# Altium schematic symbol library Master_v1i3.SchLib: 24 symbols
Pins are listed as number, name and electrical type; pins without a type are passive.

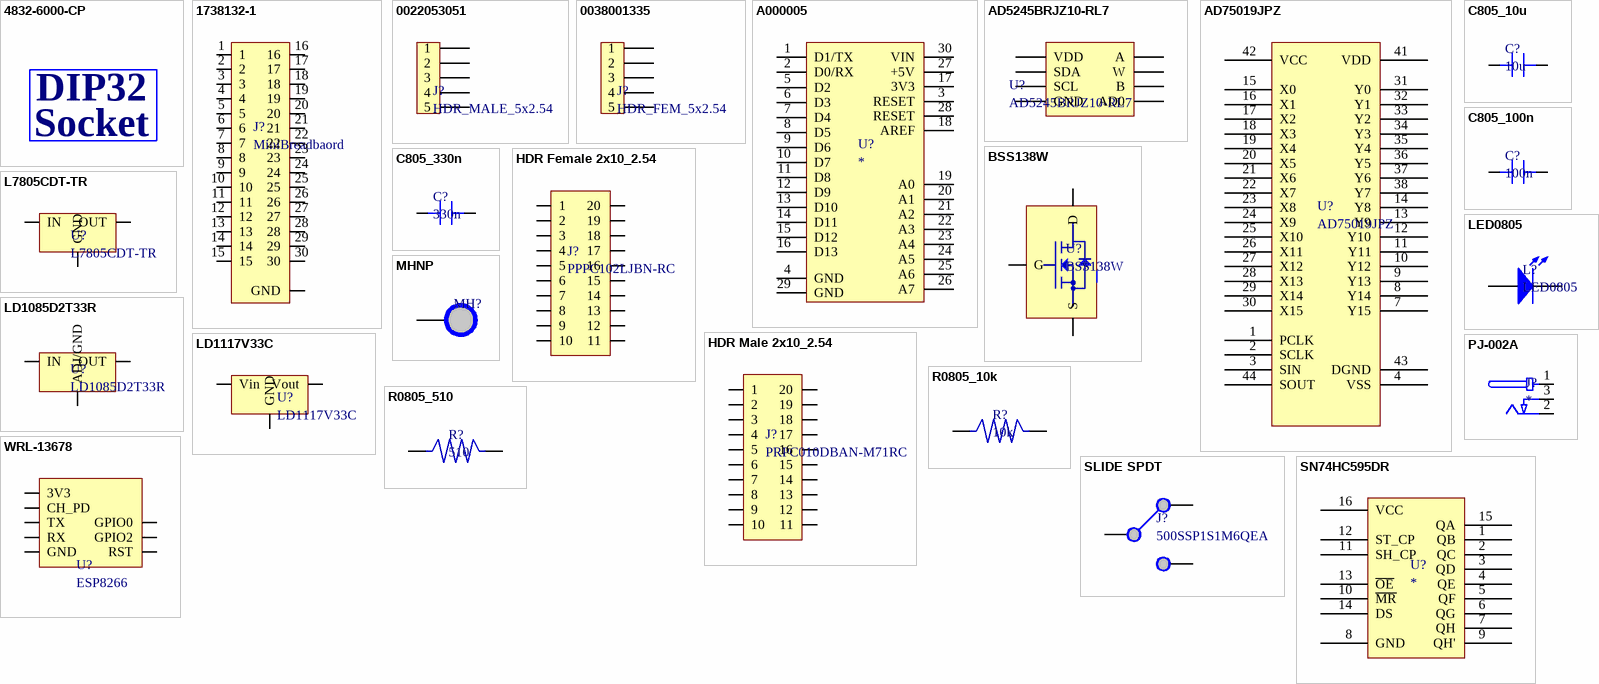
[diagram p0: symbols 4832-6000-CP to WRL-13678]

## 4832-6000-CP
designator Socket for U?, comment DIOP 32 socket  (value not drawn)  (mechanical)
SOCKET IC OPEN FRAME 32POS .6"; Manufacturer: 3M; Manufacturer Part Number: 4832-6000-CP; Current Rating: 1A; Voltage Rating (AC): 100V; Insulation Resistance: 5GR; Number of Positions: 32; Connector Type: DIP,Socket; Gender: Female; Pitch: 2.54mm; Row Spacing: 15.24mm; Supplier 1: Digi-Key; Stock 1: 4342; Mount: Through Hole; Contact Material: Bronze; Contact Plating: Nickel,Tin; Housing Material: Polyester; Insulation Material: Polyester; Min Operating Temperature: -25°C; Max Operating Temperature: 85°C; Package Quantity: 2880; Packaging: Rail/Tube; Number of Rows: 2; Termination: Solder; Number of Contacts: 32; Orientation: Straight; Length: 40.51mm; Width: 17.78mm; Depth: 17.78mm; Lead Free: Lead Free; Flammability Rating: UL94 V-0; ComponentLink1URL: https://datasheet.ciiva.com/768/ts1099-768356.pdf; ComponentLink1Description: https://datasheet.ciiva.com/768/ts1099-768356.pdf; ComponentLink2URL: https://datasheet.ciiva.com/14603/70237699-14603099.pdf; ComponentLink2Description: https://datasheet.ciiva.com/14603/70237699-14603099.pdf; Supplier Part Number 1: 3M5470-ND
text: DIP32; Socket

## 1738132-1
designator J?, comment MiniBreadbaord
Mini Breadboard; Manufacturer: TE Connectivity AMP; Manufacturer Part Number: 1738132-1; Gender: Male; Supplier 1: Digi-Key; Stock 1: 0; Colour: Natural; ComponentLink1URL: http://www.te.com/commerce/DocumentDelivery/DDEController?Action=srchrtrv&DocNm=1738132&DocType=Customer+Drawing&DocLang=English; ComponentLink1Description: http://www.te.com/commerce/DocumentDelivery/DDEController?Action=srchrtrv&DocNm=1738132&DocType=Customer+Drawing&DocLang=English; Supplier Part Number 1: 1738132-1-ND
footprint MINI_BREADBOARD _HOLE
pins: 1, 2, 3, 4, 5, 6, 7, 8, 9, 10, 11, 12, 13, 14, 15, 16, 17, 18, 19, 20, 21, 22, 23, 24, 25, 26, 27, 28, 29, 30, 31 GND

## 0022053051
designator J?, comment HDR_MALE_5x2.54
5 Positions Header, Unshrouded Connector 0.100" (2.54mm) Through Hole, Right Angle Tin; Manufacturer: Molex; Manufacturer Part Number: 0022053051; Number of Positions: 5; Number of Positions Loaded: All; Supplier 1: Digi-Key; Stock 1: 6113; Pricing 1: 1=0.58, 10=0.546, 100=0.4186, 500=0.364, 1000=0.3003, 5000=0.2639, 10000=0.2457 (USD); Category: Connectors, Interconnects; Family: Rectangular Connectors - Headers, Male Pins; Series: KK® 7478; Packaging: Bulk; Contact Type: Male Pin; Connector Type: Header, Unshrouded; Pitch: 0.100" (2.54mm); Number of Rows: 1; Row Spacing: -; Contact Mating Length: 0.264" (6.70mm); Mounting Type: Through Hole, Right Angle; Termination: Solder; Fastening Type: Friction Lock; Features: -; Contact Finish: Tin; Contact Finish Thickness: 200µin (5.08µm); Color: White; ComponentLink1URL: https://datasheet.ciiva.com/3117/0022053051-pcb-headers-3117143.pdf; ComponentLink1Description: https://datasheet.ciiva.com/3117/0022053051-pcb-headers-3117143.pdf; ComponentLink2URL: https://datasheet.ciiva.com/14896/203490022053051-pcb-headers-14896747.pdf; ComponentLink2Description: https://datasheet.ciiva.com/14896/203490022053051-pcb-headers-14896747.pdf; ComponentLink3URL: https://datasheet.ciiva.com/712/022053051-sd-712029.pdf; ComponentLink3Description: https://datasheet.ciiva.com/712/022053051-sd-712029.pdf; Supplier Part Number 1: WM4303-ND
footprint HDR_MALE_5x2.54
pins: 1, 2, 3, 4, 5

## 0038001335
designator J?, comment HDR_FEM_5x2.54
5 Position Receptacle Connector 0.100" (2.54mm) Through Hole, Right Angle Tin; Manufacturer: Molex; Manufacturer Part Number: 0038001335; Number of Contacts: 5; Gender: RCP; Supplier 1: Digi-Key; Stock 1: 2007; Pricing 1: 1=0.93, 10=0.821, 25=0.7732, 50=0.7408, 100=0.7086, 250=0.6442, 500=0.5798, 1000=0.5154, 2500=0.467 (USD); Packaging: Trays; Type: Socket Strip; Pitch: 2.54 mm; Number of Rows: 1; Contact Plating: Tin; Termination Method: Solder; ComponentLink1URL: https://datasheet.ciiva.com/411/022173022-sd-411238.pdf; ComponentLink1Description: https://datasheet.ciiva.com/411/022173022-sd-411238.pdf; ComponentLink2URL: https://datasheet.ciiva.com/10084/0038001335-pcb-receptacles-10084551.pdf; ComponentLink2Description: https://datasheet.ciiva.com/10084/0038001335-pcb-receptacles-10084551.pdf; ComponentLink3URL: https://datasheet.ciiva.com/26937/getdatasheetpartid-467333-26937535.pdf; ComponentLink3Description: https://datasheet.ciiva.com/26937/getdatasheetpartid-467333-26937535.pdf; Supplier Part Number 1: WM4450-ND
footprint HDR_FEMALE_5x2.54
pins: 1, 2, 3, 4, 5

## A000005
designator U?
ARDUINO   A000005   ATMEGA328, ARDUINO NANO, EVAL BOARD; Evaluation Kit: Yes; Interface: I2C,SPI,USB; Data Bus Width: 8b; Number of Bits: 8; Core Architecture: AVR; Operating Supply Voltage: 20V; Supplier 1: Digi-Key; Manufacturer: Arduino; Manufacturer Part Number: A000005; Stock 1: 0; Weight: 0.02lb; Package Quantity: 1; Packaging: Bulk; Length: 7inch; Height: 0.25inch; Width: 5inch; REACH SVHC: No SVHC; ComponentLink1URL: https://datasheet.ciiva.com/19455/2121148-19455443.pdf; ComponentLink1Description: https://datasheet.ciiva.com/19455/2121148-19455443.pdf; ComponentLink2URL: https://datasheet.ciiva.com/1336/1682238-1336473.pdf; ComponentLink2Description: https://datasheet.ciiva.com/1336/1682238-1336473.pdf; ComponentLink3URL: https://datasheet.ciiva.com/1414/810078-1414124.pdf; ComponentLink3Description: https://datasheet.ciiva.com/1414/810078-1414124.pdf; ComponentLink4URL: https://datasheet.ciiva.com/2398/arduinonanomanual23-2398236.pdf; ComponentLink4Description: https://datasheet.ciiva.com/2398/arduinonanomanual23-2398236.pdf; ComponentLink5URL: https://datasheet.ciiva.com/4926/arduino-arduinoboardnano-188748-4926316.pdf; ComponentLink5Description: https://datasheet.ciiva.com/4926/arduino-arduinoboardnano-188748-4926316.pdf; ComponentLink6URL: https://datasheet.ciiva.com/20168/73-4448-20168542.pdf; ComponentLink6Description: https://datasheet.ciiva.com/20168/73-4448-20168542.pdf; ComponentLink7URL: https://datasheet.ciiva.com/12069/arduino-arduinoboardnano-12069727.pdf; ComponentLink7Description: https://datasheet.ciiva.com/12069/arduino-arduinoboardnano-12069727.pdf; Supplier Part Number 1: 1050-1001-ND
footprint ARDUINO_NANO
pins: 1 D1/TX, 2 D0/RX, 3 RESET, 4 GND, 5 D2, 6 D3, 7 D4, 8 D5, 9 D6, 10 D7, 11 D8, 12 D9, 13 D10, 14 D11, 15 D12, 16 D13, 17 3V3, 18 AREF, 19 A0, 20 A1, 21 A2, 22 A3, 23 A4, 24 A5, 25 A6, 26 A7, 27 +5V, 28 RESET, 29 GND, 30 VIN

## AD5245BRJZ10-RL7
designator U?
IC, 8-BIT DIGITAL POT; Manufacturer: Analog Devices; Configuration: Potentiometer; Number of Circuits: 1; Number of Taps: 256; Resistance (Ohms): 10k; Interface: I²C; Memory Type: Volatile; Voltage - Supply: 2.7 V ~ 5.5 V; Tolerance: ±30%; Temperature Coefficient (Typ): 45 ppm/°C; Resistance - Wiper (Ohms) (Typ): 50; Supplier 1: Digi-Key; Manufacturer Part Number: AD5245BRJZ10-RL7; Stock 1: 2781; Pricing 1: 1=2.03, 10=1.819, 100=1.4625, 500=1.2015, 1000=0.9956 (USD); Category: Integrated Circuits (ICs); Family: Data Acquisition - Digital Potentiometers; Series: -; Packaging: Cut Tape (CT); Taper: Linear; Features: Selectable Address; Operating Temperature: -40°C ~ 125°C; Package / Case: SOT-23-8; Supplier Device Package: SOT-23-8; ComponentLink1URL: https://datasheet.ciiva.com/1337/ad5245-1337666.pdf; ComponentLink1Description: https://datasheet.ciiva.com/1337/ad5245-1337666.pdf; ComponentLink2URL: https://datasheet.ciiva.com/18632/ad5245-18632661.pdf; ComponentLink2Description: https://datasheet.ciiva.com/18632/ad5245-18632661.pdf; ComponentLink3URL: https://datasheet.ciiva.com/3046/ad5245-3046375.pdf; ComponentLink3Description: https://datasheet.ciiva.com/3046/ad5245-3046375.pdf; ComponentLink4URL: https://datasheet.ciiva.com/1145/85380-1145610.pdf; ComponentLink4Description: https://datasheet.ciiva.com/1145/85380-1145610.pdf; ComponentLink5URL: https://datasheet.ciiva.com/16593/ad5245-16593627.pdf; ComponentLink5Description: https://datasheet.ciiva.com/16593/ad5245-16593627.pdf; ComponentLink6URL: https://datasheet.ciiva.com/26801/ad5245brjz10-rl7-26801979.pdf; ComponentLink6Description: https://datasheet.ciiva.com/26801/ad5245brjz10-rl7-26801979.pdf; Supplier Part Number 1: AD5245BRJZ10-RL7CT-ND
footprint SOT-23-8
pins: 1 W, 2 VDD, 3 GND, 4 SCL, 5 SDA, 6 AD0, 7 B, 8 A

## AD75019JPZ
designator U?
SWITCH CROSSPOINT 16X16, SMD, 75019; Manufacturer: Analog Devices; Crosspoint Switch Type: Analogue; Control Interface: Serial; Supply Voltage Min: 4.5V; Supply Voltage Max: 5.5V; Digital IC Case: LCC; No. of Pins: 44Pins; SVHC: No SVHC (17-Dec-2015); Supplier 1: Digi-Key; Manufacturer Part Number: AD75019JPZ; Stock 1: 792; Input / Output Configuration: -; Operating Temperature Min: -25°C; Operating Temperature Max: 85°C; Packaging: Each; Product Range: -; MSL: MSL 3 - 168 hours; ComponentLink1URL: https://datasheet.ciiva.com/3036/ad75019-3036466.pdf; ComponentLink1Description: https://datasheet.ciiva.com/3036/ad75019-3036466.pdf; ComponentLink2URL: https://datasheet.ciiva.com/1170/66420-1170438.pdf; ComponentLink2Description: https://datasheet.ciiva.com/1170/66420-1170438.pdf; ComponentLink3URL: https://datasheet.ciiva.com/26824/ad75019jpz-26824058.pdf; ComponentLink3Description: https://datasheet.ciiva.com/26824/ad75019jpz-26824058.pdf; Supplier Part Number 1: AD75019JPZ-ND
footprint PLCC44_DIP
pins: 1 PCLK, 2 SCLK, 3 SIN, 4 VSS, 5 NC hidden, 6 NC hidden, 7 Y15, 8 Y14, 9 Y13, 10 Y12, 11 Y11, 12 Y10, 13 Y9, 14 Y8, 15 X0, 16 X1, 17 X2, 18 X3, 19 X4, 20 X5, 21 X6, 22 X7, 23 X8, 24 X9, 25 X10, 26 X11, 27 X12, 28 X13, 29 X14, 30 X15, 31 Y0, 32 Y1, 33 Y2, 34 Y3, 35 Y4, 36 Y5, 37 Y6, 38 Y7, 39 NC hidden, 40 NC hidden, 41 VDD, 42 VCC, 43 DGND, 44 SOUT

## BSS138W
designator U?
MOSFET 50V N-CH Logic Level; Manufacturer: Fairchild Semiconductor; Channel Type: N-Channel; Drain-Source On Resistance-Max: 3.5 O; Qg Gate Charge: 1.1 nC; Rated Power Dissipation: 340 mW; Supplier 1: Digi-Key; Manufacturer Part Number: BSS138W; Stock 1: 55420; Drain-to-Source Voltage [Vdss]: 50 V; ComponentLink1URL: https://datasheet.ciiva.com/17170/bss138w-17170739.pdf; ComponentLink1Description: https://datasheet.ciiva.com/17170/bss138w-17170739.pdf; ComponentLink2URL: https://datasheet.ciiva.com/8115/bss138w-8115367.pdf; ComponentLink2Description: https://datasheet.ciiva.com/8115/bss138w-8115367.pdf; ComponentLink3URL: https://datasheet.ciiva.com/15043/bss138w-15043927.pdf; ComponentLink3Description: https://datasheet.ciiva.com/15043/bss138w-15043927.pdf; ComponentLink4URL: https://datasheet.ciiva.com/15043/bss138w-15043928.pdf; ComponentLink4Description: https://datasheet.ciiva.com/15043/bss138w-15043928.pdf; ComponentLink5URL: https://datasheet.ciiva.com/15043/bss138w-15043929.pdf; ComponentLink5Description: https://datasheet.ciiva.com/15043/bss138w-15043929.pdf; ComponentLink6URL: https://datasheet.ciiva.com/8115/bss138w-8115370.pdf; ComponentLink6Description: https://datasheet.ciiva.com/8115/bss138w-8115370.pdf; ComponentLink7URL: https://datasheet.ciiva.com/26146/bss138w-26146843.pdf; ComponentLink7Description: https://datasheet.ciiva.com/26146/bss138w-26146843.pdf; ComponentLink8URL: https://datasheet.ciiva.com/13042/bss138w-91619-13042909.pdf; ComponentLink8Description: https://datasheet.ciiva.com/13042/bss138w-91619-13042909.pdf; Supplier Part Number 1: BSS138WCT-ND
footprint SOT-323
pins: 1 G, 2 S, 3 D

## C805_10u
designator C?, comment 10u
footprint C0805
pins: 1, 2

## C805_100n
designator C?, comment 100n
footprint C0805
pins: 1, 2

## C805_330n
designator C?, comment 330n
footprint C0805
pins: 1, 2

## HDR Female 2x10_2.54
designator J?, comment PPPC102LJBN-RC
CONN FMALE 20POS DL .1" R/A GOLD; Manufacturer: Sullins; Number of Positions: 20; Connector Type: Socket,Header; Pitch: 0.1inch; Supplier 1: Digi-Key; Manufacturer Part Number: PPPC102LJBN-RC; Stock 1: 12126; Mount: Through Hole; Colour: Black; Contact Plating: Gold; Contact Material: Bronze; Housing Colour: Black; Housing Material: Plastic; Package Quantity: 1000; Number of Rows: 2; Packaging: Bulk; Termination: Solder; Length: 25.9mm; Height: 5mm; Row Spacing: 0.1inch; Width: 8.5mm; Lead Free: Lead Free; ComponentLink1URL: http://www.sullinscorp.com/images/10494.pdf; ComponentLink1Description: http://www.sullinscorp.com/images/10494.pdf; ComponentLink2URL: http://sullinscorp.com/drawings/101_P(N)PxCxx2LJBN-RC,_10494-H.pdf; ComponentLink2Description: http://sullinscorp.com/drawings/101_P(N)PxCxx2LJBN-RC,_10494-H.pdf; Supplier Part Number 1: S5563-ND
footprint HDR_FEMALE_10x2x2.54 (PPPC102LJBN-RC)
pins: 1, 2, 3, 4, 5, 6, 7, 8, 9, 10, 11, 12, 13, 14, 15, 16, 17, 18, 19, 20

## HDR Male 2x10_2.54
designator J?, comment PRPC010DBAN-M71RC
20 Positions Header, Unshrouded, Breakaway Connector 0.100" (2.54mm) Through Hole, Right Angle Gold; Manufacturer: Sullins; Number of Positions: 20; Connector Type: Male Pin; Pitch: 0.1inch; Supplier 1: Digi-Key; Manufacturer Part Number: PRPC010DBAN-M71RC; Stock 1: 459; Mount: Through Hole; Colour: Black; Contact Plating: Gold; Package Quantity: 1; Number of Rows: 2; Packaging: Bulk; Termination: Solder; Row Spacing: 0.1inch; Contact Mating Length: 0.23inch; ComponentLink1URL: https://datasheet.ciiva.com/741/xrxczzzdxxn-m71rc-11639-b-741675.pdf; ComponentLink1Description: https://datasheet.ciiva.com/741/xrxczzzdxxn-m71rc-11639-b-741675.pdf; Supplier Part Number 1: S2111EC-10-ND; Pricing 1: 1=1.08, 10=0.97, 100=0.7989, 500=0.6315, 1000=0.5421, 5000=0.49455, 10000=0.47553 (USD)
footprint HDR_MALE_10x2x2.54 (PRPC010DBAN-M71RC)
pins: 1, 2, 3, 4, 5, 6, 7, 8, 9, 10, 11, 12, 13, 14, 15, 16, 17, 18, 19, 20

## L7805CDT-TR
designator U?
IC REG LDO 5V 1.5A DPAK; Manufacturer: STMicroelectronics; Dropout Voltage: 2V; Number of Outputs: 1; Max Input Voltage: 35V; Min Input Voltage: 7V; Polarity: Positive; Quiescent Current: 8mA; Power Supply Rejection Ratio (PSRR): 62dB; Supplier 1: Digi-Key; Manufacturer Part Number: L7805CDT-TR; Stock 1: 7500; Mount: Surface Mount; Case/Package: TO-252; Number of Pins: 3; Contact Plating: Tin,Matte; Min Operating Temperature: 0°C; Max Operating Temperature: 125°C; Package Quantity: 1; Packaging: Tape and Reel; Max Output Current: 1.5A; Output Voltage: 5V; Output Current: 1.5A; Number of Regulators: 1; Min Output Voltage: 5V; Length: 6.6mm; Height: 2.4mm; Width: 6.2mm; Radiation Hardening: No; Lead Free: Lead Free; ComponentLink1URL: https://datasheet.ciiva.com/2042/cd00000444-2042784.pdf; ComponentLink1Description: https://datasheet.ciiva.com/2042/cd00000444-2042784.pdf; ComponentLink2URL: https://datasheet.ciiva.com/2042/cd00000444-2042785.pdf; ComponentLink2Description: https://datasheet.ciiva.com/2042/cd00000444-2042785.pdf; ComponentLink3URL: https://datasheet.ciiva.com/16357/cd00000444-16357893.pdf; ComponentLink3Description: https://datasheet.ciiva.com/16357/cd00000444-16357893.pdf; ComponentLink4URL: https://datasheet.ciiva.com/4882/cd00000444-4882231.pdf; ComponentLink4Description: https://datasheet.ciiva.com/4882/cd00000444-4882231.pdf; ComponentLink5URL: https://datasheet.ciiva.com/17360/cd00000444-17360220.pdf; ComponentLink5Description: https://datasheet.ciiva.com/17360/cd00000444-17360220.pdf; ComponentLink6URL: https://datasheet.ciiva.com/2042/cd00000444-2042783.pdf; ComponentLink6Description: https://datasheet.ciiva.com/2042/cd00000444-2042783.pdf; ComponentLink7URL: https://datasheet.ciiva.com/26904/l7805cdt-tr-26904768.pdf; ComponentLink7Description: https://datasheet.ciiva.com/26904/l7805cdt-tr-26904768.pdf; Supplier Part Number 1: 497-7255-2-ND
footprint DPAK (D-PAK, 3-Pads, Body 6.10x6.56mm (max), IPC Medium Density)
pins: 1 IN, 3 OUT, 4 GND

## LD1085D2T33R
designator U?
Fixed LDO Voltage Regulator, 6.3V to 30V, 1.3V Dropout, 3.3Vout, 3Aout, TO-263-3; Manufacturer: STMicroelectronics; Number of Outputs: 1; Max Output Current: 3A; Output Voltage: 3.3V; Min Supply Voltage: 4.9V; Input Bias Current: 5mA; Polarity: Positive; Quiescent Current: 10mA; Max Output Voltage: 3.333V; Accuracy: 1%; Supplier 1: Digi-Key; Manufacturer Part Number: LD1085D2T33R; Stock 1: 5416; Mount: Surface Mount; Case/Package: TO-263; Number of Pins: 3; Weight: 0.01lb; Contact Plating: Tin,Matte; Min Operating Temperature: -40°C; Max Operating Temperature: 125°C; Packaging: Tape and Reel; Max Input Voltage: 30V; Dropout Voltage: 1.3V; Output Current: 3A; Max Supply Voltage: 30V; Package Quantity: 1; Min Input Voltage: 6.3V; Nominal Output Voltage: 3.3V; Number of Regulators: 1; Min Output Voltage: 3.3V; Termination: SMD/SMT; Output Voltage Accuracy: 1%; Length: 10.4mm; Height: 4.6mm; Width: 9.35mm; Radiation Hardening: No; REACH SVHC: No SVHC; Lead Free: Lead Free; ComponentLink1URL: https://datasheet.ciiva.com/16375/cd00001883-16375381.pdf; ComponentLink1Description: https://datasheet.ciiva.com/16375/cd00001883-16375381.pdf; ComponentLink2URL: https://datasheet.ciiva.com/1511/1761309-1511542.pdf; ComponentLink2Description: https://datasheet.ciiva.com/1511/1761309-1511542.pdf; ComponentLink3URL: https://datasheet.ciiva.com/22694/1761309-22694841.pdf; ComponentLink3Description: https://datasheet.ciiva.com/22694/1761309-22694841.pdf; ComponentLink4URL: https://datasheet.ciiva.com/2044/cd00001883-2044187.pdf; ComponentLink4Description: https://datasheet.ciiva.com/2044/cd00001883-2044187.pdf; ComponentLink5URL: https://datasheet.ciiva.com/15111/getdatasheetpartid-65476-15111291.pdf; ComponentLink5Description: https://datasheet.ciiva.com/15111/getdatasheetpartid-65476-15111291.pdf; ComponentLink6URL: https://datasheet.ciiva.com/2044/cd00001883-2044188.pdf; ComponentLink6Description: https://datasheet.ciiva.com/2044/cd00001883-2044188.pdf; ComponentLink7URL: https://datasheet.ciiva.com/2044/cd00001883-2044189.pdf; ComponentLink7Description: https://datasheet.ciiva.com/2044/cd00001883-2044189.pdf; ComponentLink8URL: https://datasheet.ciiva.com/41439/001184676-da-01-en-ic-reg-ldo-3-3-ld1085d2t33r-to-263-3-stm-41439834.pdf; ComponentLink8Description: https://datasheet.ciiva.com/41439/001184676-da-01-en-ic-reg-ldo-3-3-ld1085d2t33r-to-263-3-stm-41439834.pdf; Supplier Part Number 1: 497-1222-6-ND; Pricing 1: 1=1.46, 10=1.305, 100=1.0176, 500=0.84066 (USD)
footprint D2PAK
pins: 1 ADJ/GND, 3 IN, 4 OUT

## LD1117V33C
designator U?
STMICROELECTRONICS         LD1117V33C            Fixed LDO Voltage Regulator, 15V in, 1.1V Dropout, 3.3V/800mA out, TO-220-3; Number of Outputs: 1; Output Voltage: 3.3V; Max Output Current: 1.3A; Max Power Dissipation: 12W; Polarity: Positive; Quiescent Current: 10mA; Accuracy: 1%; Output Current: 800mA; Input Bias Current: 5mA; Supplier 1: Digi-Key; Manufacturer: STMicroelectronics; Manufacturer Part Number: LD1117V33C; Stock 1: 2184; Mount: Through Hole; Case/Package: TO; Number of Pins: 3; Weight: 0.02lb; Min Operating Temperature: -40°C; Max Operating Temperature: 125°C; Max Input Voltage: 15V; Packaging: Rail/Tube; Dropout Voltage: 1.1V; Number of Regulators: 1; Package Quantity: 50; Nominal Output Voltage: 3.3V; Power Dissipation: 12W; Min Output Voltage: 3.3V; Output Voltage Accuracy: 1%; Length: 10.4mm; Height: 9.15mm; Width: 4.6mm; Radiation Hardening: No; REACH SVHC: No SVHC; Lead Free: Lead Free; ComponentLink1URL: https://datasheet.ciiva.com/1511/1776449-1511580.pdf; ComponentLink1Description: https://datasheet.ciiva.com/1511/1776449-1511580.pdf; ComponentLink2URL: https://datasheet.ciiva.com/16226/cd00000544-16226333.pdf; ComponentLink2Description: https://datasheet.ciiva.com/16226/cd00000544-16226333.pdf; ComponentLink3URL: https://datasheet.ciiva.com/2044/cd00000544-2044110.pdf; ComponentLink3Description: https://datasheet.ciiva.com/2044/cd00000544-2044110.pdf; Supplier Part Number 1: 497-1492-5-ND
footprint LD1117
pins: 1 GND, 2 Vout, 3 Vin

## LED0805
designator L?  (no BOM)
LED0805 any color
footprint LED0805
pins: 1 C, 2 A

## MHNP
designator MH?, comment MH 3.2mm NP  (value not drawn)  (no BOM)
Mounting hole 3.2mm non plated
footprint MH3.2mm (MHNP 3.2mm)
pins: 1

## PJ-002A
designator J?
PJ-002 Series 2 x 6.5 mm 16 V Right Angle Through Hole Power Jack; Manufacturer: CUI; Manufacturer Part Number: PJ-002A; Gender: Male; Shielding: Unshielded; Current Rating: 2.5A; Voltage Rating: 24V; Insulation Resistance: 50MR; Number of Conductors: 2; Supplier 1: Digi-Key; Stock 1: 133077; Mount: Through Hole; Contact Material: Copper,Copper Alloy; Contact Plating: Nickel,Tin; Housing Colour: Black; Housing Material: Thermoplastic; Colour: Black; Min Operating Temperature: -25°C; Max Operating Temperature: 85°C; Termination: Through Hole; Connector Type: Jack; Packaging: Bulk; Package Quantity: 500; Contact Gender: Male; Orientation: Horizontal; Diameter: 2.1mm; Lead Free: Lead Free; Flammability Rating: UL94 V-0; ComponentLink1URL: http://www.cui.com/product/resource/digikeypdf/pj-002a.pdf; ComponentLink1Description: http://www.cui.com/product/resource/digikeypdf/pj-002a.pdf; ComponentLink2URL: http://www.cui.com/Product/Resource/FuturePDF/PJ-002A.pdf; ComponentLink2Description: http://www.cui.com/Product/Resource/FuturePDF/PJ-002A.pdf; ComponentLink3URL: http://www.mouser.com/ds/2/670/pj-002a-515880.pdf; ComponentLink3Description: http://www.mouser.com/ds/2/670/pj-002a-515880.pdf; Supplier Part Number 1: CP-002A-ND
footprint PJ-002A (CONN PWR JACK 2X5.5MM SOLDER)
pins: 1, 2 3, 3 2

## R0805_10k
designator R?, comment 10k
footprint R0805
pins: 1, 2

## R0805_510
designator R?, comment 510
footprint R0805
pins: 1, 2

## SLIDE SPDT
designator J?, comment 500SSP1S1M6QEA
SWITCH SLIDE SPDT 5A 120V; Manufacturer: E-Switch; Mechanical Life: 30000Cycles; Actuator Material: Nylon,Polyamide; Max Voltage Rating (AC): 250V; Voltage Rating (DC): 28V; Contact Resistance: 10mR; Switch Travel: 2.16mm; Switch Function: On-On; Actuator Length: 4.72mm; Supplier 1: Digi-Key; Manufacturer Part Number: 500SSP1S1M6QEA; Stock 1: 6111; Mount: Through Hole,Brackets; Contact Plating: Silver; Contact Material: Copper,Silver,Copper Alloy; Housing Material: Stainless Steel; Min Operating Temperature: -30°C; Max Operating Temperature: 85°C; Contact Current Rating: 5A; Voltage Rating (AC): 120V; Throw Configuration: SPDT; Package Quantity: 1; Packaging: Bulk; Current Rating: 5A; Max Voltage Rating (DC): 28V; Termination: PC Pin; Electrical Life: 30000Cycles; Orientation: Right Angle; REACH SVHC: Unknown; Lead Free: Lead Free; Flammability Rating: UL94 V-0; ComponentLink1URL: https://datasheet.ciiva.com/16337/500-16337624.pdf; ComponentLink1Description: https://datasheet.ciiva.com/16337/500-16337624.pdf; ComponentLink2URL: https://datasheet.ciiva.com/16174/35500-16174234.pdf; ComponentLink2Description: https://datasheet.ciiva.com/16174/35500-16174234.pdf; ComponentLink3URL: https://datasheet.ciiva.com/2889/t511006d-2889419.pdf; ComponentLink3Description: https://datasheet.ciiva.com/2889/t511006d-2889419.pdf; Supplier Part Number 1: EG2478-ND; Pricing 1: 1=2.93, 10=2.808, 25=2.7484, 50=2.39, 100=2.3303, 250=2.27052, 500=1.912, 1000=1.7925, 5000=1.64313 (USD)
footprint SLIDE SPDT (500SSP1S1M6QEA)
pins: 1, 2, 3

## SN74HC595DR
designator U?
IC, SM, LOGIC, 74HC, REGISTER; Manufacturer: Texas Instruments; Manufacturer Part Number: SN74HC595DR; Counting Sequence: Serial to Serial/Parallel; Number of Circuits: 4; Number of Bits: 8 bit; Logic Type: CMOS; Number of Input Lines: 5 / 10; Output Type: 3-State; Propagation Delay Time: 200 ns, 40 ns, 34 ns; Supply Voltage - Max: 6 V; Function: 8 Bit Shift; Number of Output Lines: 10; Operating Supply Voltage: 2 V to 6 V; Unit Weight: 0.004998 oz; Supplier 1: Digi-Key; Stock 1: 46510; Product Category: Counter Shift Registers; RoHS: True; Package / Case: SOIC-16; Logic Family: 74HC; Minimum Operating Temperature: - 40 C; Maximum Operating Temperature: + 85 C; Packaging: Reel; Brand: Texas Instruments; Mounting Style: SMD/SMT; Operating Temperature Range: - 40 C to + 85 C; Series: SN74HC595; Factory Pack Quantity: 2500; Width: 3.91 mm; ComponentLink1URL: https://datasheet.ciiva.com/1886/sn74hc595-1886279.pdf; ComponentLink1Description: https://datasheet.ciiva.com/1886/sn74hc595-1886279.pdf; ComponentLink2URL: https://datasheet.ciiva.com/1886/sn74hc595-1886280.pdf; ComponentLink2Description: https://datasheet.ciiva.com/1886/sn74hc595-1886280.pdf; ComponentLink3URL: https://datasheet.ciiva.com/1886/sn74hc595-1886281.pdf; ComponentLink3Description: https://datasheet.ciiva.com/1886/sn74hc595-1886281.pdf; ComponentLink4URL: https://datasheet.ciiva.com/1509/1831198-1509483.pdf; ComponentLink4Description: https://datasheet.ciiva.com/1509/1831198-1509483.pdf; ComponentLink5URL: https://datasheet.ciiva.com/46381/1886142-46381835.pdf; ComponentLink5Description: https://datasheet.ciiva.com/46381/1886142-46381835.pdf; ComponentLink6URL: https://datasheet.ciiva.com/15093/getdatasheetpartid-134875-15093436.pdf; ComponentLink6Description: https://datasheet.ciiva.com/15093/getdatasheetpartid-134875-15093436.pdf; ComponentLink7URL: https://datasheet.ciiva.com/22696/1831198-22696812.pdf; ComponentLink7Description: https://datasheet.ciiva.com/22696/1831198-22696812.pdf; ComponentLink8URL: https://datasheet.ciiva.com/14294/sn74hc595-14294989.pdf; ComponentLink8Description: https://datasheet.ciiva.com/14294/sn74hc595-14294989.pdf; ComponentLink9URL: https://datasheet.ciiva.com/34301/916385-34301758.pdf; ComponentLink9Description: https://datasheet.ciiva.com/34301/916385-34301758.pdf; ComponentLink10URL: https://datasheet.ciiva.com/14294/sn74hc595-14294991.pdf; ComponentLink10Description: https://datasheet.ciiva.com/14294/sn74hc595-14294991.pdf; ComponentLink11URL: https://datasheet.ciiva.com/46435/1831198-46435871.pdf; ComponentLink11Description: https://datasheet.ciiva.com/46435/1831198-46435871.pdf; ComponentLink12URL: https://datasheet.ciiva.com/26866/sn74hc595dr-26866161.pdf; ComponentLink12Description: https://datasheet.ciiva.com/26866/sn74hc595dr-26866161.pdf; Supplier Part Number 1: 296-14857-1-ND
footprint SOP16
pins: 1 QB, 2 QC, 3 QD, 4 QE, 5 QF, 6 QG, 7 QH, 8 GND, 9 QH', 10 ~{MR}, 11 SH_CP, 12 ST_CP, 13 ~{OE}, 14 DS, 15 QA, 16 VCC

## WRL-13678
designator U?, comment ESP8266
WIFI ESP8266 MOD WIFI TRACE ANT; Manufacturer: SparkFun; Manufacturer Part Number: WRL-13678; Supplier 1: Digi-Key; Stock 1: 1618; ComponentLink1URL: https://nurdspace.nl/images/e/e0/ESP8266_Specifications_English.pdf; ComponentLink1Description: https://nurdspace.nl/images/e/e0/ESP8266_Specifications_English.pdf; Supplier Part Number 1: 1568-1235-ND; Pricing 1: 1=6.95 (USD)
footprint ESP8266
pins: 1 TX, 2 CH_PD, 3 RST, 4 3V3, 5 RX, 6 GPIO0, 7 GPIO2, 8 GND